# Altium footprint library PcbLib_POW_HugoHamblok.PcbLib: 26 footprints (part 1 of 2)
Each footprint in its own frame and in the unit in brackets; x right, y up, seen from the top. Pads: shape width x height; smd on the part's side, far side on the other; paste and mask are expansions set on the pad; w line width, h text height; cw(c..) or ccw(c..) is an arc to the next point about the centre after c.
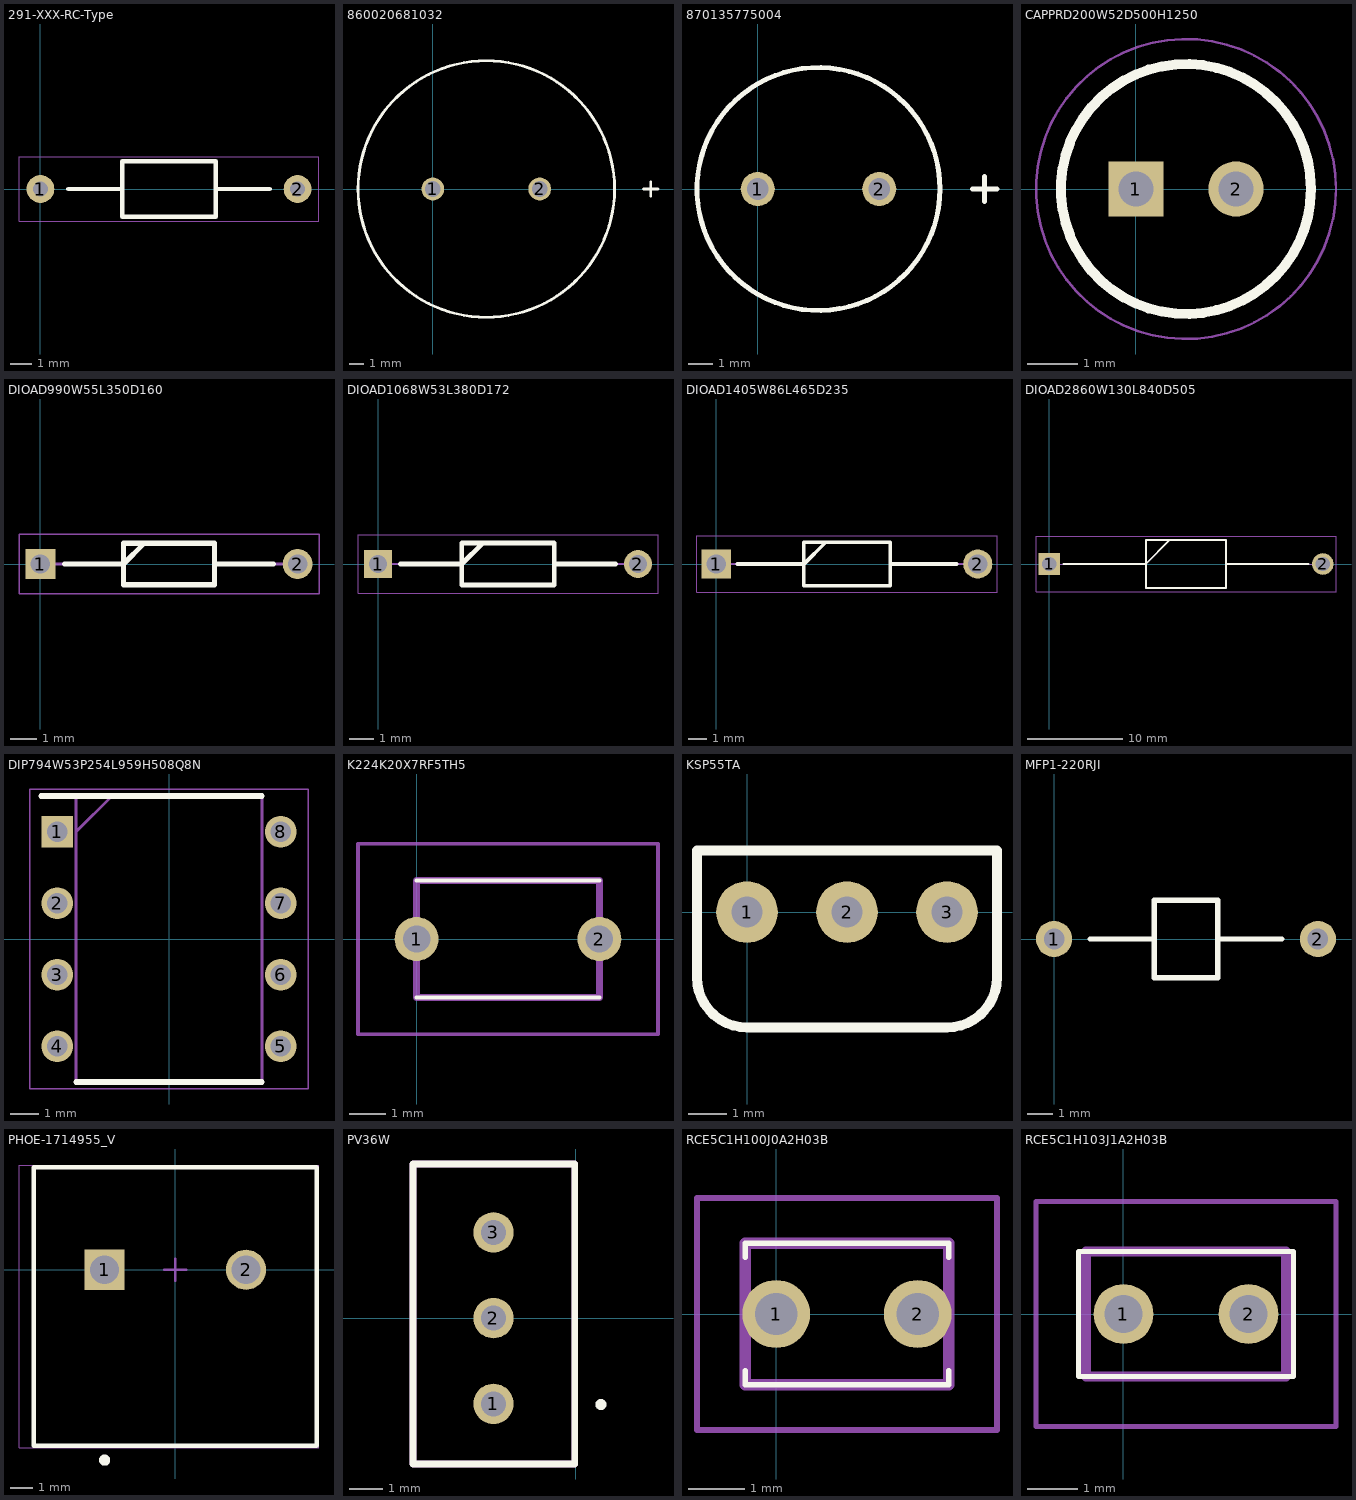
[diagram p0: the footprints below, top view; thin cyan lines are the x and y axes]

## 291-XXX-RC-Type [mm]
pads (2):
  round 1.3 hole 0.7: 1(0,0) 2(12,0)
Top Overlay:
  lines w0.2: 1.3,0 3.825,0 ; 8.175,0 10.7,0 ; 3.825,0 3.825,-1.3 8.175,-1.3 8.175,1.3 3.825,1.3 3.825,0
Mechanical 15:
  lines w0.05: -1,-1.5 13,-1.5 13,1.5 4,1.5 -1,1.5 -1,-1.5

## 860020681032 [mm]
pads (2):
  round 1.6 hole 1.1: 1(0,0) 2(7.5,0)
Top Overlay:
  circle w0.2: c3.75,0 r9
  lines w0.2: 14.782,0 15.798,0 ; 15.29,-0.508 15.29,0.508

## 870135775004 [mm]
pads (2):
  round 1.4 hole 0.9: 1(0,0) 2(5,0)
Top Overlay:
  circle w0.2: c2.5,0 r5
  lines w0.2: 8.83,0 9.846,0 ; 9.338,-0.508 9.338,0.508

## CAPPRD200W52D500H1250 [mm]
pads (2):
  rect 1.1x1.1 hole 0.7: 1(0,0)
  round 1.1 hole 0.7: 2(2,0)
Top Overlay:
  circle w0.2: c1,0 r2.5
Mechanical 13:
  circle w0.1: c1,0 r2.5
Mechanical 15:
  circle w0.05: c1,0 r3
3D body "860020672010.stp": height 12.5, standoff -10, extent -1.75,-2.75 3.75,2.75

## DIOAD990W55L350D160 [mm]
pads (2):
  rect 1.15x1.15 hole 0.75: 1(0,0)
  round 1.15 hole 0.75: 2(9.9,0)
Top Overlay:
  lines w0.2: 0.925,0 3.2,0 4,0.8 ; 6.7,0 8.975,0 ; 3.2,-0.8 3.2,0.8 6.7,0.8 6.7,-0.8 3.2,-0.8
Mechanical 13:
  lines w0.1: 0,0 3.2,0 4,0.8 ; 6.7,0 9.9,0 ; 3.2,-0.8 3.2,0.8 6.7,0.8 6.7,-0.8 3.2,-0.8
Mechanical 15:
  lines w0.05: -0.825,-1.15 -0.825,1.15 10.725,1.15 10.725,-1.15 -0.825,-1.15
3D body "1N5231B-TR.stp": height 1.69, standoff -1.7, extent -0.273,-0.848 10.175,0.848

## DIOAD1068W53L380D172 [mm]
pads (2):
  rect 1.15x1.15 hole 0.75: 1(0,0)
  round 1.15 hole 0.75: 2(10.7,0)
Top Overlay:
  lines w0.2: 0.925,0 3.448,0 4.308,0.86 ; 7.252,0 9.775,0 ; 3.448,-0.86 3.448,0.86 7.252,0.86 7.252,-0.86 3.448,-0.86
Mechanical 13:
  lines w0.1: 0,0 3.448,0 4.308,0.86 ; 7.252,0 10.7,0 ; 3.448,-0.86 3.448,0.86 7.253,0.86 7.253,-0.86 3.448,-0.86
Mechanical 15:
  lines w0.05: -0.825,-1.21 -0.825,1.21 11.525,1.21 11.525,-1.21 -0.825,-1.21
3D body "1N4148TA.stp": height 1.9, standoff -1.91, extent -0.264,-0.953 10.951,0.953

## DIOAD1405W86L465D235 [mm]
pads (2):
  rect 1.575x1.575 hole 1.05: 1(0,0)
  round 1.575 hole 1.05: 2(14.1,0)
Top Overlay:
  lines w0.2: 1.138,0 4.725,0 5.9,1.175 ; 9.375,0 12.962,0 ; 4.725,-1.175 9.375,-1.175 9.375,1.175 4.725,1.175 4.725,-1.175
Mechanical 13:
  lines w0.1: 0,0 4.725,0 5.9,1.175 ; 9.375,0 14.1,0 ; 4.725,-1.175 9.375,-1.175 9.375,1.175 4.725,1.175 4.725,-1.175
Mechanical 15:
  lines w0.05: -1.038,-1.525 15.137,-1.525 15.137,1.525 -1.038,1.525 -1.038,-1.525
3D body "1N4004RLG.stp": height 2.69, standoff -2.7, extent -0.427,-1.347 14.48,1.347

## DIOAD2860W130L840D505 [mm]
pads (2):
  rect 2.25x2.25 hole 1.5: 1(0,0)
  round 2.25 hole 1.5: 2(28.6,0)
Top Overlay:
  lines w0.2: 1.475,0 10.1,0 12.625,2.525 ; 18.5,0 27.125,0 ; 10.1,-2.525 10.1,2.525 18.5,2.525 18.5,-2.525 10.1,-2.525
Mechanical 13:
  lines w0.1: 0,0 10.1,0 12.625,2.525 ; 18.5,0 28.6,0 ; 10.1,-2.525 10.1,2.525 18.5,2.525 18.5,-2.525 10.1,-2.525
Mechanical 15:
  lines w0.05: -1.375,-2.875 -1.375,2.875 29.975,2.875 29.975,-2.875 -1.375,-2.875
3D body "1N5408G.stp": height 5.3, standoff -5.3, extent -0.645,-2.65 29.25,2.65

## DIP794W53P254L959H508Q8N [mm]
pads (8):
  rect 1.13x1.13 hole 0.73: 1(-3.97,3.81)
  round 1.13 hole 0.73: 2(-3.97,1.27) 3(-3.97,-1.27) 4(-3.97,-3.81) 5(3.97,-3.81) 6(3.97,-1.27) 7(3.97,1.27) 8(3.97,3.81)
Top Overlay:
  lines w0.2: -4.535,5.08 3.3,5.08 ; -3.3,-5.08 3.3,-5.08
Mechanical 13:
  lines w0.1: -3.3,3.81 -2.03,5.08 ; -3.3,-5.08 3.3,-5.08 3.3,5.08 -3.3,5.08 -3.3,-5.08
Mechanical 15:
  lines w0.05: -4.945,-5.33 4.945,-5.33 4.945,5.33 -4.945,5.33 -4.945,-5.33
3D body "TL081CP.stp": height 5.08, standoff -3.5, extent -4.102,-4.795 4.102,4.795

## K224K20X7RF5TH5 [mm]
pads (2):
  round 1.2 hole 0.75: 1(0,0) 2(5,0)
Top Overlay:
  lines w0.1: 0,-1.6 5,-1.6 ; 0,1.6 5,1.6
Mechanical 13:
  lines w0.2: 0,-1.6 0,1.6 5,1.6 5,-1.6 0,-1.6
Mechanical 15:
  lines w0.1: -1.6,-2.6 -1.6,2.6 6.6,2.6 6.6,-2.6 -1.6,-2.6
3D body "K224K20X7RF5TH5.stp": height 5.1, standoff -5, extent -0.273,-1.6 5.275,1.6

## KSP55TA [mm] "Transistor"
pads (3):
  round 1.6 hole 0.8: 1(0,0) 2(2.6,0) 3(5.2,0)
Top Overlay:
  lines w0.254: -1.3,-1.7 ccw(c0,-1.7) 0,-3 2.6,-3 5.2,-3 ccw(c5.2,-1.7) 6.5,-1.7 6.5,1.6 5.1,1.6 0,1.6 -1.3,1.6 -1.3,-1.7

## MFP1-220RJI [mm]
pads (2):
  round 1.4 hole 0.8: 1(0,0) 2(10.2,0)
Top Overlay:
  lines w0.2: 1.4,0 3.875,0 ; 6.325,0 8.8,0 ; 3.875,0 3.875,1.5 6.325,1.5 6.325,-1.5 3.875,-1.5 3.875,0

## PHOE-1714955_V [mm] "Terminal Block, 2-Leads, Body 12.7x12.5mm, Pitch 6.35mm"
height 21.5
pads (2):
  rect 1.8x1.8 hole 1.3: 1(-3.175,0)
  round 1.8 hole 1.3: 2(3.175,0)
Top Overlay:
  circle w0.25: c-3.175,-8.55 r0.125
  lines w0.2: -6.35,-7.9 6.35,-7.9 6.35,4.6 -6.35,4.6 -6.35,-7.9
Mechanical 13:
  lines w0.1: -6.35,-7.9 6.35,-7.9 6.35,4.6 -6.35,4.6 -6.35,-7.9
Mechanical 15:
  lines w0.05: -7.02,-8 6.45,-8 6.45,4.7 -7.02,4.7 -7.02,-8
  lines w0.1: -0.5,0 0.5,0 ; 0,-0.5 0,0.5
3D body "1714955_03.stp": height 21.51, standoff -4.99, extent -6.92,-7.9 6.35,4.6

## PV36W [mm]
pads (3):
  round 1.2 hole 0.74: 1(-2.441,-2.54) 2(-2.441,0) 3(-2.441,2.54)
Top Overlay:
  circle w0.2: c0.743,-2.561 r0.065
  lines w0.2: -4.83,-4.324 -0.031,-4.324 -0.031,4.57 -4.83,4.57 -4.83,-4.324
Mechanical 13:
  lines w0.2: -4.83,-4.324 -4.83,4.57 -0.031,4.57 -0.031,-4.324 -4.83,-4.324

## RCE5C1H100J0A2H03B [mm]
pads (2):
  round 1.2 hole 0.75: 1(0,0) 2(2.5,0)
Top Overlay:
  lines w0.1: -0.55,-1 -0.55,-1.25 3.05,-1.25 3.05,-1 ; -0.55,1 -0.55,1.25 3.05,1.25 3.05,1
Mechanical 13:
  lines w0.2: -0.55,-1.25 3.05,-1.25 3.05,1.25 -0.55,1.25 -0.55,-1.25
Mechanical 15:
  lines w0.1: -1.4,-2.05 3.9,-2.05 3.9,2.05 -1.4,2.05 -1.4,-2.05
3D body "RCE5C1H331J0M1H03A.stp": height 5.1, standoff -5, extent -0.55,-1.25 3.05,1.25

## RCE5C1H103J1A2H03B [mm]
pads (2):
  round 1.2 hole 0.75: 1(0,0) 2(2.5,0)
Top Overlay:
  lines w0.1: -0.9,-1.25 3.4,-1.25 3.4,1.25 -0.9,1.25 -0.9,-1.25
Mechanical 13:
  lines w0.2: -0.75,-1.25 3.25,-1.25 3.25,1.25 -0.75,1.25 -0.75,-1.25
Mechanical 15:
  lines w0.1: -1.75,-2.25 4.25,-2.25 4.25,2.25 -1.75,2.25 -1.75,-2.25
3D body "RDE5C1H101J0K1H03B.stp": height 5.1, standoff -5, extent -0.75,-1.25 3.25,1.25